# EAGLE library part PCA9306_PW_8 (library ti-i2c)
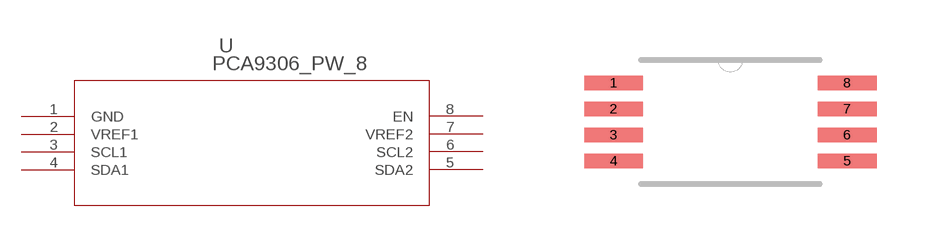
[diagram p0: symbol with the pads of PW8; footprint PW8]

Designator prefix U

## PCA9306_PW_8 (DATASHEETURL: http://www.ti.com/lit/gpn/PCA9306; DESCRIPTION: Dual Bi-Directional I2C-Bus and SMBus Voltage Level-Translator; FAMILY_NAME: I2C SPECIAL FUNCTION; GENERIC_PART_NUMBER: PCA9306; INDUSTRY_STD_PKG_TYPE: TSSOP; MANUFACTURER: Texas Instruments; MANUFACTURER_PART_NUMBER: pca9306_pw_8; PACKAGE_DESIGNATOR: PW; PIN_COUNT: 8; VENDOR: Texas Instruments)  [PW8]
1  GND  pwr
2  VREF1  pwr
3  SCL1  pas
4  SDA1  pas
5  SDA2  pas
6  SCL2  pas
7  VREF2  pwr
8  EN  pas

## Footprint PW8 (pad centres in mm)
smd 1.473 x 0.356: 1 -2.921,0.975; 2 -2.921,0.325; 3 -2.921,-0.325; 4 -2.921,-0.975; 5 2.921,-0.975; 6 2.921,-0.325; 7 2.921,0.325; 8 2.921,0.975